# Altium schematic symbol library SMB.SchLib: 1 symbol
Pins are listed as number, name and electrical type; pins without a type are passive.

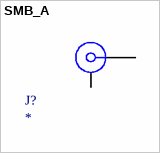
[diagram p0: symbol SMB_A]

## SMB_A
designator J?
footprint SMB_1A - duplicate
footprint SMB_1A
pins: 1, MH